# Altium schematic symbol library IPD036N04L G.SchLib: 1 symbol
Pins are listed as number, name and electrical type; pins without a type are passive.

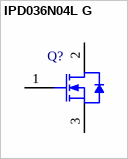
[diagram p0: symbol IPD036N04L G]

## IPD036N04L G
designator Q?
N-Channel OptiMOS 3 Power-Transistor, 40 V VDS, 90 A ID, -55 to 175 degC, PG-TO252-3-11, Reel, Green; Manufacturer: Infineon; PartNumber: IPD036N04L G; Green: TRUE; ID (max): 90 A; IDpuls (max): 400 A; Polarity: N; Ptot (max): 94 W; QG: 59 nC; RDS (on) (max): 3.6 mOhm; RDS (on) (max) (@4.5V): 4.9 mOhm; Rth: 1.6 K/W; RthJA (max): 75 K/W; VDS (max): 40 V; VGS(th) (max): 2 V; VGS(th) (min): 1.2 V; DatasheetVersion: Rev. 1.0; PackageVersion: Rev. 02, 03/2007; PackageReference: PG-TO252-3-11; PackageDescription: 3-Pin Plastic (Green) Transistor Single Outline Package, 6.57 x 6.1 mm Body, 2.29 mm Pitch; Supplier 1: Digi-Key; Supplier Part Number 1: IPD036N04L GTR-ND; Supplier 2: Digi-Key; Supplier Part Number 2: IPD036N04L GCT-ND; Supplier 3: Digi-Key; Supplier Part Number 3: IPD036N04L GDKR-ND; Supplier 4: Farnell; Supplier Part Number 4: 1775568; Supplier 5: Newark; Supplier Part Number 5: 60R2687; Supplier 6: Mouser; Supplier Part Number 6: 726-IPD036N04LG; Packing: Reel; RthJC (max): 1.6 K/W; Mounting Technology: Surface Mount; ComponentLink1Description: Manufacturer URL; ComponentLink1URL: http://www.infineon.com/; ComponentLink2Description: Datasheet; ComponentLink2URL: http://www.infineon.com/dgdl/IPD036N04L_rev1.pdf?folderId=db3a3043163797a6011643468e7505a4&fileId=db3a3043163797a6011643476a6505a5; ComponentLink3Description: Package Specification; ComponentLink3URL: http://www.infineon.com/dgdl/IPD160N04L_rev1.0.pdf?folderId=db3a3043163797a6011643468e7505a4&fileId=db3a3043163797a60116436401cf05cf
footprint INF-PG-TO252-3-11_A_N (DPAK, 3-Leads, Body 6.57x6.1mm, Pitch 2.29mm, IPC Medium Density)
footprint INF-PG-TO252-3-11_A_L (DPAK, 3-Leads, Body 6.57x6.1mm, Pitch 2.29mm, IPC High Density)
footprint INF-PG-TO252-3-11_A_M (DPAK, 3-Leads, Body 6.57x6.1mm, Pitch 2.29mm, IPC Low Density)
pins: 1 GATE, 2 DRAIN, 3 SOURCE